# EAGLE library part SOCKET-8 (library con-3m-skt-header)
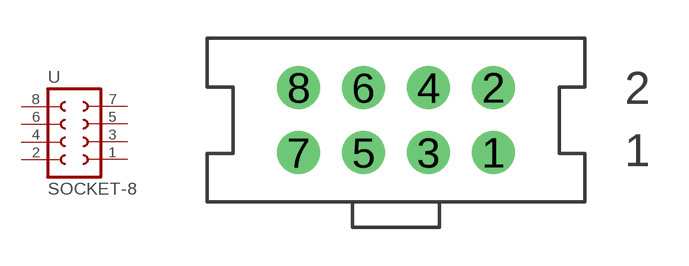
[diagram p10: symbol with the pads of S8; footprint S8]

Designator prefix -

## SOCKET-8  [S8]
1  1  pas
2  2  pas
3  3  pas
4  4  pas
5  5  pas
6  6  pas
7  7  pas
8  8  pas

## Footprint S8 (pad centres in mm)
drill 0.8 pad 1.676: 1 5.08,-1.27; 2 5.08,1.27; 3 2.54,-1.27; 4 2.54,1.27; 5 0,-1.27; 6 0,1.27; 7 -2.54,-1.27; 8 -2.54,1.27